# Altium schematic symbol library MCP9808T-EMS.SchLib: 1 symbol
Pins are listed as number, name and electrical type; pins without a type are passive.

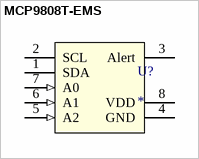
[diagram p0: symbol MCP9808T-EMS]

## MCP9808T-EMS
designator U?
pins: 1 SDA, 2 SCL (power), 3 Alert, 4 GND, 5 A2 (in), 6 A1 (in), 7 A0 (in), 8 VDD (power)